# Altium footprint library SC_GA1A2S100LY.PcbLib: 1 footprints
Each footprint in its own frame and in the unit in brackets; x right, y up, seen from the top. Pads: shape width x height; smd on the part's side, far side on the other; paste and mask are expansions set on the pad; w line width, h text height; cw(c..) or ccw(c..) is an arc to the next point about the centre after c.
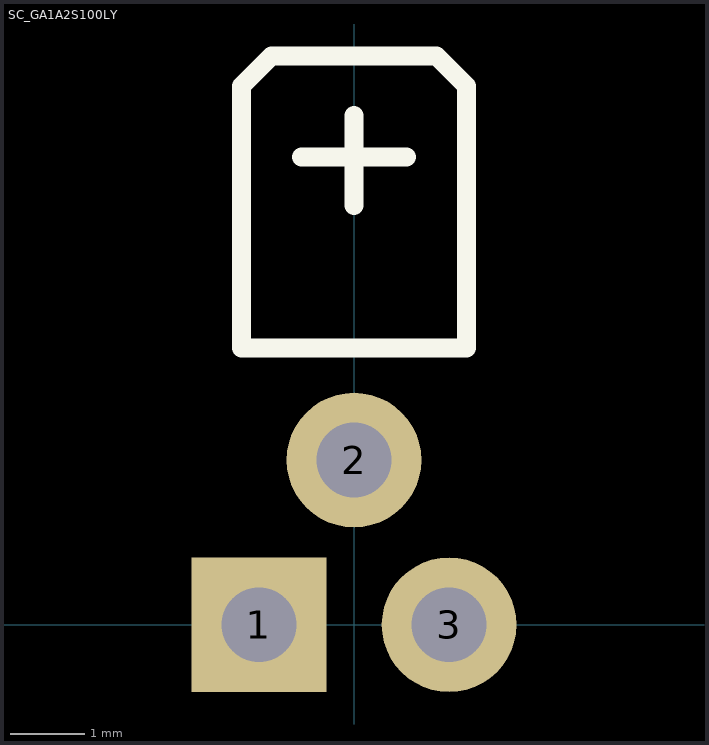
[diagram p0: the footprint, top view; thin cyan lines are the x and y axes]

## SC_GA1A2S100LY [mm] "Linear Output Ambient Light Sensor"
pads (3):
  rect 1.8x1.8 hole 1: 1(-1.27,0)
  round 1.8 hole 1: 2(0,2.2) 3(1.27,0)
Top Overlay:
  lines w0.254: -0.7,6.25 0.7,6.25 ; 0,5.6 0,6.8 ; -1.5,3.7 -1.5,7.2 -1.1,7.6 1.1,7.6 1.5,7.2 1.5,3.7 -1.5,3.7